# EAGLE library part OPA2340 (library everykey)
Dual Op Amp, rail to rail, single supply, 2.5-5.5V, 6MHz. Pin compatible with many other dual op amps (e.g. MCP607)
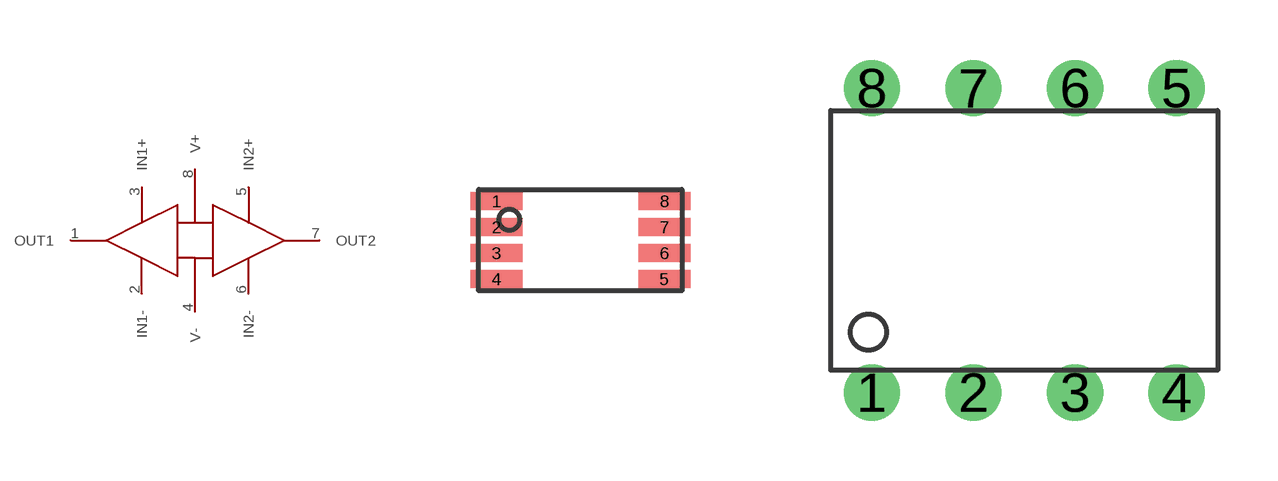
[diagram p4: symbol with the pads of MSOP8; footprints MSOP8, DIP8-300]

Designator prefix -

## OPA2340-MSOP  [MSOP8]
1  OUT1  out
2  IN1-  in
3  IN1+  in
4  V-  pwr
5  IN2+  in
6  IN2-  in
7  OUT2  out
8  V+  pwr

## OPA2340-DIP8  [DIP8-300]
Pads as for MSOP8

## Footprint MSOP8 (pad centres in mm)
smd 1.3 x 0.45: 1 -2.1,0.975; 2 -2.1,0.325; 3 -2.1,-0.325; 4 -2.1,-0.975; 5 2.1,-0.975; 6 2.1,-0.325; 7 2.1,0.325; 8 2.1,0.975

## Footprint DIP8-300 (pad centres in mm)
DIP8 package, 300 mil row spacing
drill 0.9: 1 -3.81,-3.81; 2 -1.27,-3.81; 3 1.27,-3.81; 4 3.81,-3.81; 5 3.81,3.81; 6 1.27,3.81; 7 -1.27,3.81; 8 -3.81,3.81